# Altium footprint library 杂项库.PcbLib: 585 footprints (part 18 of 37)
Each footprint in its own frame and in the unit in brackets; x right, y up, seen from the top. Pads: shape width x height; smd on the part's side, far side on the other; paste and mask are expansions set on the pad; w line width, h text height; cw(c..) or ccw(c..) is an arc to the next point about the centre after c.
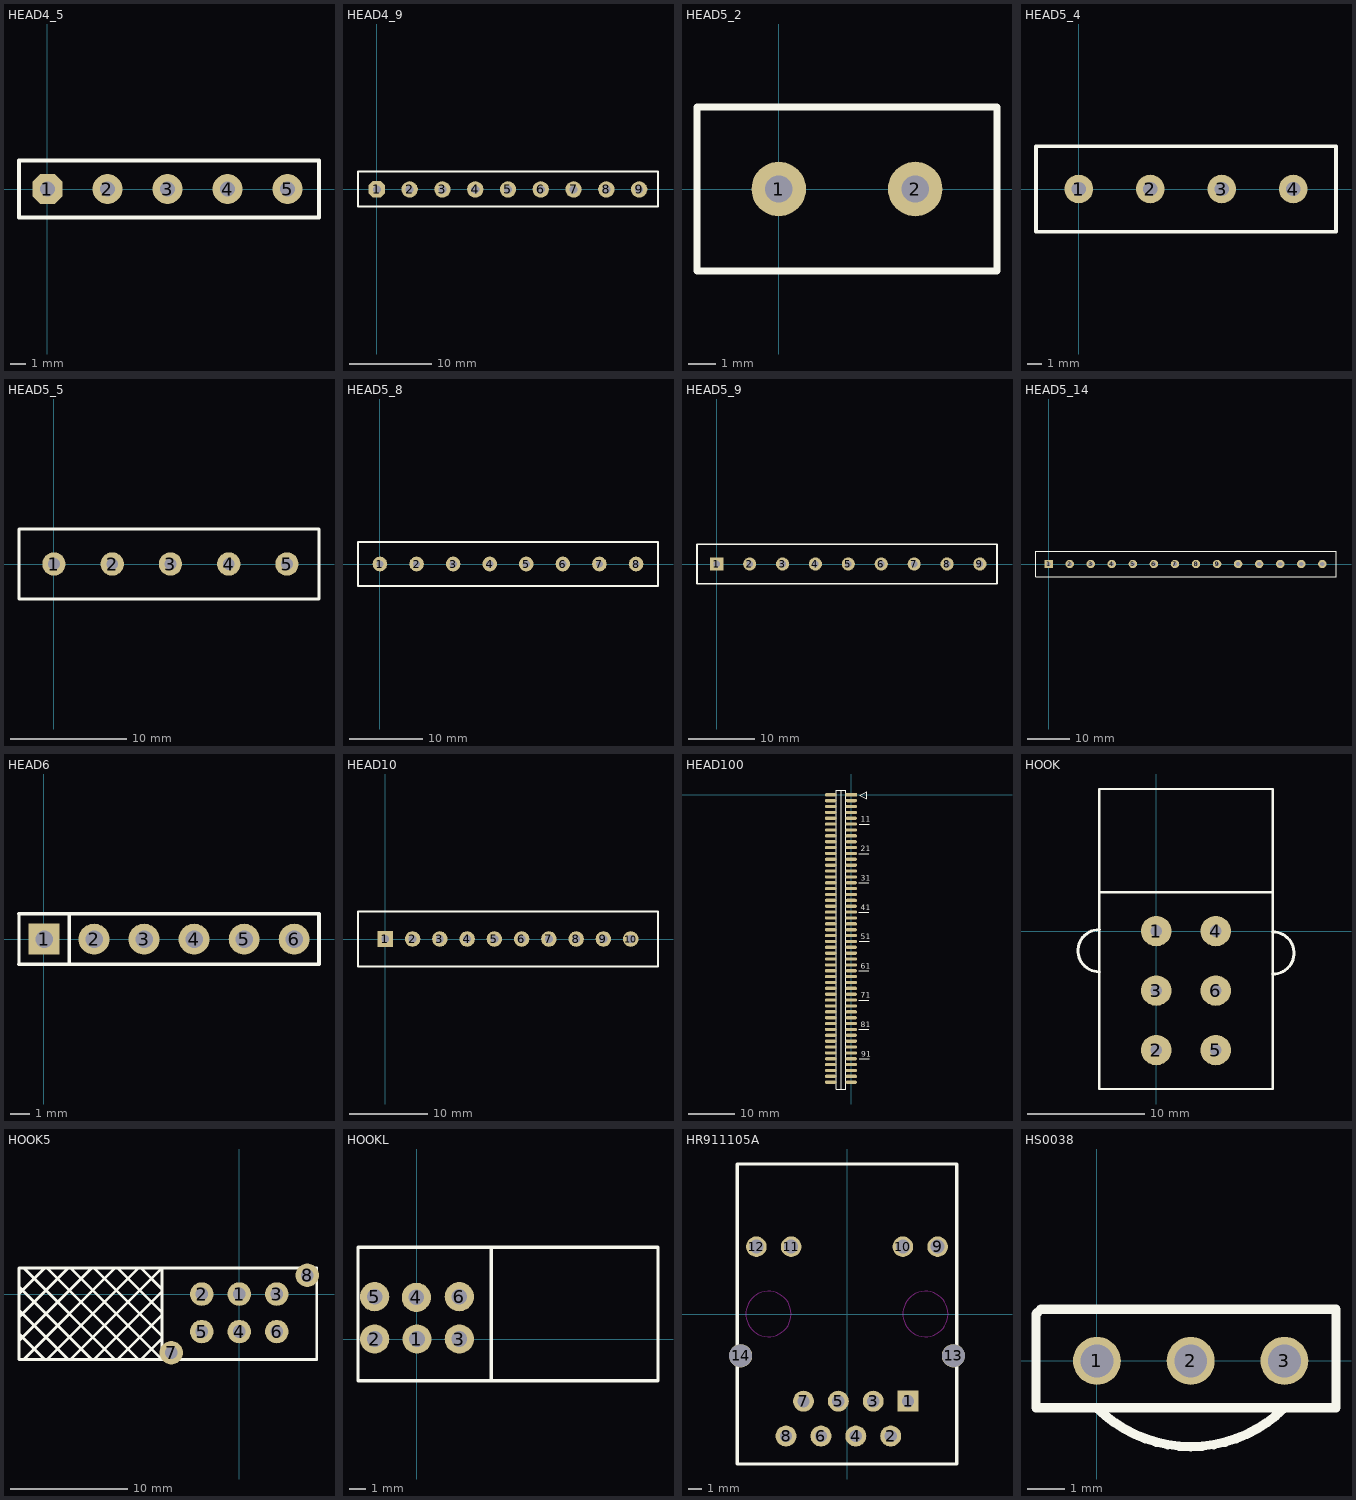
[diagram p17: the footprints below, top view; thin cyan lines are the x and y axes]

## HEAD4_5 [mm]
pads (5):
  oct 2x2 hole 1: 1(0,0)
  round 2 hole 1: 2(4,0) 3(8,0) 4(12,0) 5(16,0)
Top Overlay:
  lines w0.254: -1.9,-1.9 -1.9,1.9 18.1,1.9 18.1,-1.9 -1.9,-1.9

## HEAD4_9 [mm]
pads (9):
  oct 2x2 hole 1: 1(0,0)
  round 2 hole 1: 2(4,0) 3(8,0) 4(12,0) 5(16,0) 6(20,0) 7(24,0) 8(28,0) 9(32,0)
Top Overlay:
  lines w0.254: -2.3,-2.1 34.3,-2.1 34.3,2.2 -2.3,2.2 -2.3,-2.1

## HEAD5_2 [mm]
pads (2):
  round 2 hole 1: 1(0,0) 2(5,0)
Top Overlay:
  lines w0.254: -3,-3 -3,2 -3,3 8,3 8,-3 -3,-3

## HEAD5_4 [mm]
pads (4):
  round 2 hole 1: 1(0,0) 2(5,0) 3(10,0) 4(15,0)
Top Overlay:
  lines w0.254: 6,-3 18,-3 18,3 8,3 -3,3 -3,2 -3,-3 8,-3

## HEAD5_5 [mm]
pads (5):
  round 2 hole 1: 1(0,0) 2(5,0) 3(10,0) 4(15,0) 5(20,0)
Top Overlay:
  lines w0.254: -3,-3 -3,2 -3,3 8,3 22.75,3 22.75,-3 8,-3 -3,-3

## HEAD5_8 [mm]
pads (8):
  round 2 hole 1: 1(0,0) 2(5,0) 3(10,0) 4(15,0) 5(20,0) 6(25,0) 7(30,0) 8(35,0)
Top Overlay:
  lines w0.254: 6,-3 38,-3 38,3 8,3 -3,3 -3,2 -3,-3 8,-3

## HEAD5_9 [mm]
pads (9):
  rect 2x2 hole 1: 1(0,0)
  round 2 hole 1: 2(5,0) 3(10,0) 4(15,0) 5(20,0) 6(25,0) 7(30,0) 8(35,0) 9(40,0)
Top Overlay:
  lines w0.254: -3,-3 8,-3 42.592,-3 42.592,3 8,3 -3,3 -3,2 -3,-3

## HEAD5_14 [mm]
pads (14):
  rect 2x2 hole 1: 1(0,0)
  round 2 hole 1: 2(5,0) 3(10,0) 4(15,0) 5(20,0) 6(25,0) 7(30,0) 8(35,0) 9(40.005,0) 10(45,0) 11(50,0) 12(55,0) 13(60,0) 14(65,0)
Top Overlay:
  lines w0.254: -3,-3 8,-3 42.592,-3 68.247,-3 68.247,3 42.592,3 8,3 -3,3 -3,2 -3,-3

## HEAD6 [mil]
pads (6):
  rect 62x62 hole 35: 1(0.42,0.42)
  round 62 hole 35: 2(100.42,0.42) 3(200.43,0.42) 4(300.43,0.42) 5(400.43,0.42) 6(500.43,0.42)
Top Overlay:
  lines w6: -49.58,-49.58 -49.58,51.18
  lines w7: -49.58,-49.58 550,-49.58 550,51.18 -49.58,51.18 51.18,51.18 51.18,-49.58

## HEAD10 [mm]
pads (10):
  rect 2x2 hole 1: 1(0,0)
  round 2 hole 1: 2(3.5,0) 3(7,0) 4(10.5,0) 5(14,0) 6(17.5,0) 7(21,0) 8(24.5,0) 9(28,0) 10(31.5,0)
Top Overlay:
  lines w0.254: 35,-3.5 -3.5,-3.5 -3.5,3.5 35,3.5 ; 35,-3.5 35,-3.5 ; 35,-3.5 35,3.5 ; 35,3.5 35,3.5

## HEAD100 [mm]
pads (100):
  rect 2.5x0.7 smd: 1(0,0)
  oval 2.5x0.7 smd: 2(-4.48,0) 3(0,-1.27) 4(-4.48,-1.27) 5(0,-2.54) 6(-4.48,-2.54) 7(0,-3.81) 8(-4.48,-3.81) 9(0,-5.08) 10(-4.48,-5.08) 11(0,-6.35) 12(-4.48,-6.35) 13(0,-7.62) 14(-4.48,-7.62) 15(0,-8.89) 16(-4.48,-8.89) 17(0,-10.16) 18(-4.48,-10.16) 19(0,-11.43) 20(-4.48,-11.43) 21(0,-12.7) 22(-4.48,-12.7) 23(0,-13.97) 24(-4.48,-13.97) 25(0,-15.24) 26(-4.48,-15.24) 27(0,-16.51) 28(-4.48,-16.51) 29(0,-17.78) 30(-4.48,-17.78) 31(0,-19.05) 32(-4.48,-19.05) 33(0,-20.32) 34(-4.48,-20.32) 35(0,-21.59) 36(-4.48,-21.59) 37(0,-22.86) 38(-4.48,-22.86) 39(0,-24.13) 40(-4.48,-24.13) 41(0,-25.4) 42(-4.48,-25.4) 43(0,-26.67) 44(-4.48,-26.67) 45(0,-27.94) 46(-4.48,-27.94) 47(0,-29.21) 48(-4.48,-29.21) 49(0,-30.48) 50(-4.48,-30.48) 51(0,-31.75) 52(-4.48,-31.75) 53(0,-33.02) 54(-4.48,-33.02) 55(0,-34.29) 56(-4.48,-34.29) 57(0,-35.56) 58(-4.48,-35.56) 59(0,-36.83) 60(-4.48,-36.83) 61(0,-38.1) 62(-4.48,-38.1) 63(0,-39.37) 64(-4.48,-39.37) 65(0,-40.64) 66(-4.48,-40.64) 67(0,-41.91) 68(-4.48,-41.91) 69(0,-43.18) 70(-4.48,-43.18) 71(0,-44.45) 72(-4.48,-44.45) 73(0,-45.72) 74(-4.48,-45.72) 75(0,-46.99) 76(-4.48,-46.99) 77(0,-48.26) 78(-4.48,-48.26) 79(0,-49.53) 80(-4.48,-49.53) 81(0,-50.8) 82(-4.48,-50.8) 83(0,-52.07) 84(-4.48,-52.07) 85(0,-53.34) 86(-4.48,-53.34) 87(0,-54.61) 88(-4.48,-54.61) 89(0,-55.88) 90(-4.48,-55.88) 91(0,-57.15) 92(-4.44,-57.15) 93(0,-58.42) 94(-4.48,-58.42) 95(0,-59.69) 96(-4.48,-59.69) 97(0,-60.96) 98(-4.48,-60.96) 99(0,-62.23) 100(-4.48,-62.23)
Top Overlay:
  lines w0.178: -2.2,-63.7 -2.2,1 ; -3.2,-63.7 -1.2,-63.7 -1.2,1 -3.2,1 -3.2,-63.7 ; 1.876,-0.062 3.4,-0.824 3.4,0.7 1.876,-0.062
  lines w0.254: 1.624,-12.748 3.774,-12.748 ; 1.649,-44.448 3.799,-44.448 ; 1.649,-19.048 3.799,-19.048 ; 1.674,-50.773 3.824,-50.773 ; 1.674,-38.098 3.824,-38.098 ; 1.674,-25.473 3.824,-25.473 ; 1.699,-31.748 3.849,-31.748 ; 1.699,-6.348 3.849,-6.348 ; 1.749,-57.148 3.899,-57.148
  text "91" at 2.149,-56.673 h1.2
  text "81" at 2.074,-50.298 h1.2
  text "71" at 2.049,-43.973 h1.2
  text "61" at 2.074,-37.623 h1.2
  text "51" at 2.099,-31.273 h1.2
  text "41" at 2.074,-24.998 h1.2
  text "31" at 2.049,-18.573 h1.2
  text "21" at 2.024,-12.273 h1.2
  text "11" at 2.099,-5.873 h1.2

## HOOK [mm]
pads (6):
  round 2.6 hole 1.016: 1(0,0) 2(0,-10.16) 3(0,-5.08) 4(5.08,0) 5(5.08,-10.16) 6(5.08,-5.08)
Top Overlay:
  lines w0.2: -4.86,12.12 9.94,12.12 ; -4.86,12.12 -4.86,-13.48 9.94,-13.48 9.94,12.12 ; -4.86,12.12 -4.86,3.32 9.94,3.32 9.94,12.12 ; -4.86,12.12 9.94,12.12
  lines w0.254: -4.86,-3.48 cw(c-4.873,-1.68) -4.86,0.12 ; 9.94,-3.68 ccw(c9.951,-1.88) 9.94,-0.08

## HOOK5 [mm]
pads (8):
  round 2 hole 1.1: 1(0,0) 2(-3.2,0) 3(3.2,0) 4(0,-3.2) 5(-3.2,-3.2) 6(3.2,-3.2) 7(-5.8,-5) 8(5.8,1.6)
Top Overlay:
  lines w0.25: -18.79,-3.981 -12.59,2.219 ; -18.79,-3.381 -16.59,-5.581 ; -18.79,-1.981 -14.59,2.219 ; -18.79,-1.381 -14.59,-5.581 ; -18.79,0.019 -16.59,2.219 ; -18.79,0.619 -12.59,-5.581 ; -18.39,-5.581 -10.59,2.219 ; -18.39,2.219 -10.59,-5.581 ; -16.39,-5.581 -8.59,2.219 ; -16.39,2.219 -8.59,-5.581 ; -14.39,-5.581 -6.59,2.219 ; -14.39,2.219 -6.59,-5.581 ; -12.39,-5.581 -6.59,0.219 ; -12.39,2.219 -6.59,-3.581 ; -10.39,-5.581 -6.59,-1.781 ; -10.39,2.219 -6.59,-1.581 ; -8.39,-5.581 -6.59,-3.781 ; -8.39,2.219 -6.59,0.419 ; -6.59,-5.581 -6.59,2.219 ; -6.59,-5.581 6.61,-5.581 ; -6.59,2.219 6.61,2.219 ; 6.61,-5.581 6.61,2.219 ; 6.61,-5.581 6.61,2.219 ; 6.61,-5.581 -18.79,-5.581 -18.79,2.219 6.61,2.219

## HOOKL [mm]
pads (6):
  round 1.75 hole 0.94: 1(0,0) 2(-2.54,0) 3(2.54,0) 4(-0.04,2.5) 5(-2.54,2.54) 6(2.54,2.54)
Top Overlay:
  lines w0.2: 4.46,-2.5 -3.54,-2.5 -3.54,5.5 4.46,5.5 ; 4.46,-2.5 4.46,5.5 ; 4.46,-2.5 4.46,5.5 ; 4.46,-2.5 14.46,-2.5 14.46,5.5 4.46,5.5

## HR911105A [mm]
pads (14):
  rect 1.524x1.524 hole 0.889: 1(4.45,-6.35)
  round 1.524 hole 0.889: 2(3.18,-8.89) 3(1.91,-6.35) 4(0.64,-8.89) 5(-0.63,-6.35) 6(-1.9,-8.89) 7(-3.17,-6.35) 8(-4.44,-8.89)
  round 1.5 hole 1.02: 9(6.6,4.9) 10(4.064,4.9) 11(-4.064,4.9) 12(-6.6,4.9)
  round 1.7 hole 1.65: 13(7.75,-3.048) 14(-7.75,-3.048)
Top Overlay:
  lines w0.254: -8,-10.922 -8,10.922 0,10.922 8,10.922 8,-10.922 0,-10.922 -8,-10.922
Keep-Out Layer:
  circle w0.051: c-5.714,0 r1.65
  circle w0.051: c5.716,0 r1.65

## HS0038 [mm]
pads (3):
  round 1.3 hole 0.889: 1(0,0) 2(2.54,0) 3(5.08,0)
Top Overlay:
  lines w0.254: 0,-1.27 ccw(c2.54,1.27) 5.08,-1.27 ; -1.651,-1.27 -1.651,1.27 -1.524,1.397 6.477,1.397 6.477,-1.27 -1.651,-1.27